# Altium footprint library pcb lib.PcbLib: 160 footprints (part 9 of 10)
Each footprint in its own frame and in the unit in brackets; x right, y up, seen from the top. Pads: shape width x height; smd on the part's side, far side on the other; paste and mask are expansions set on the pad; w line width, h text height; cw(c..) or ccw(c..) is an arc to the next point about the centre after c.
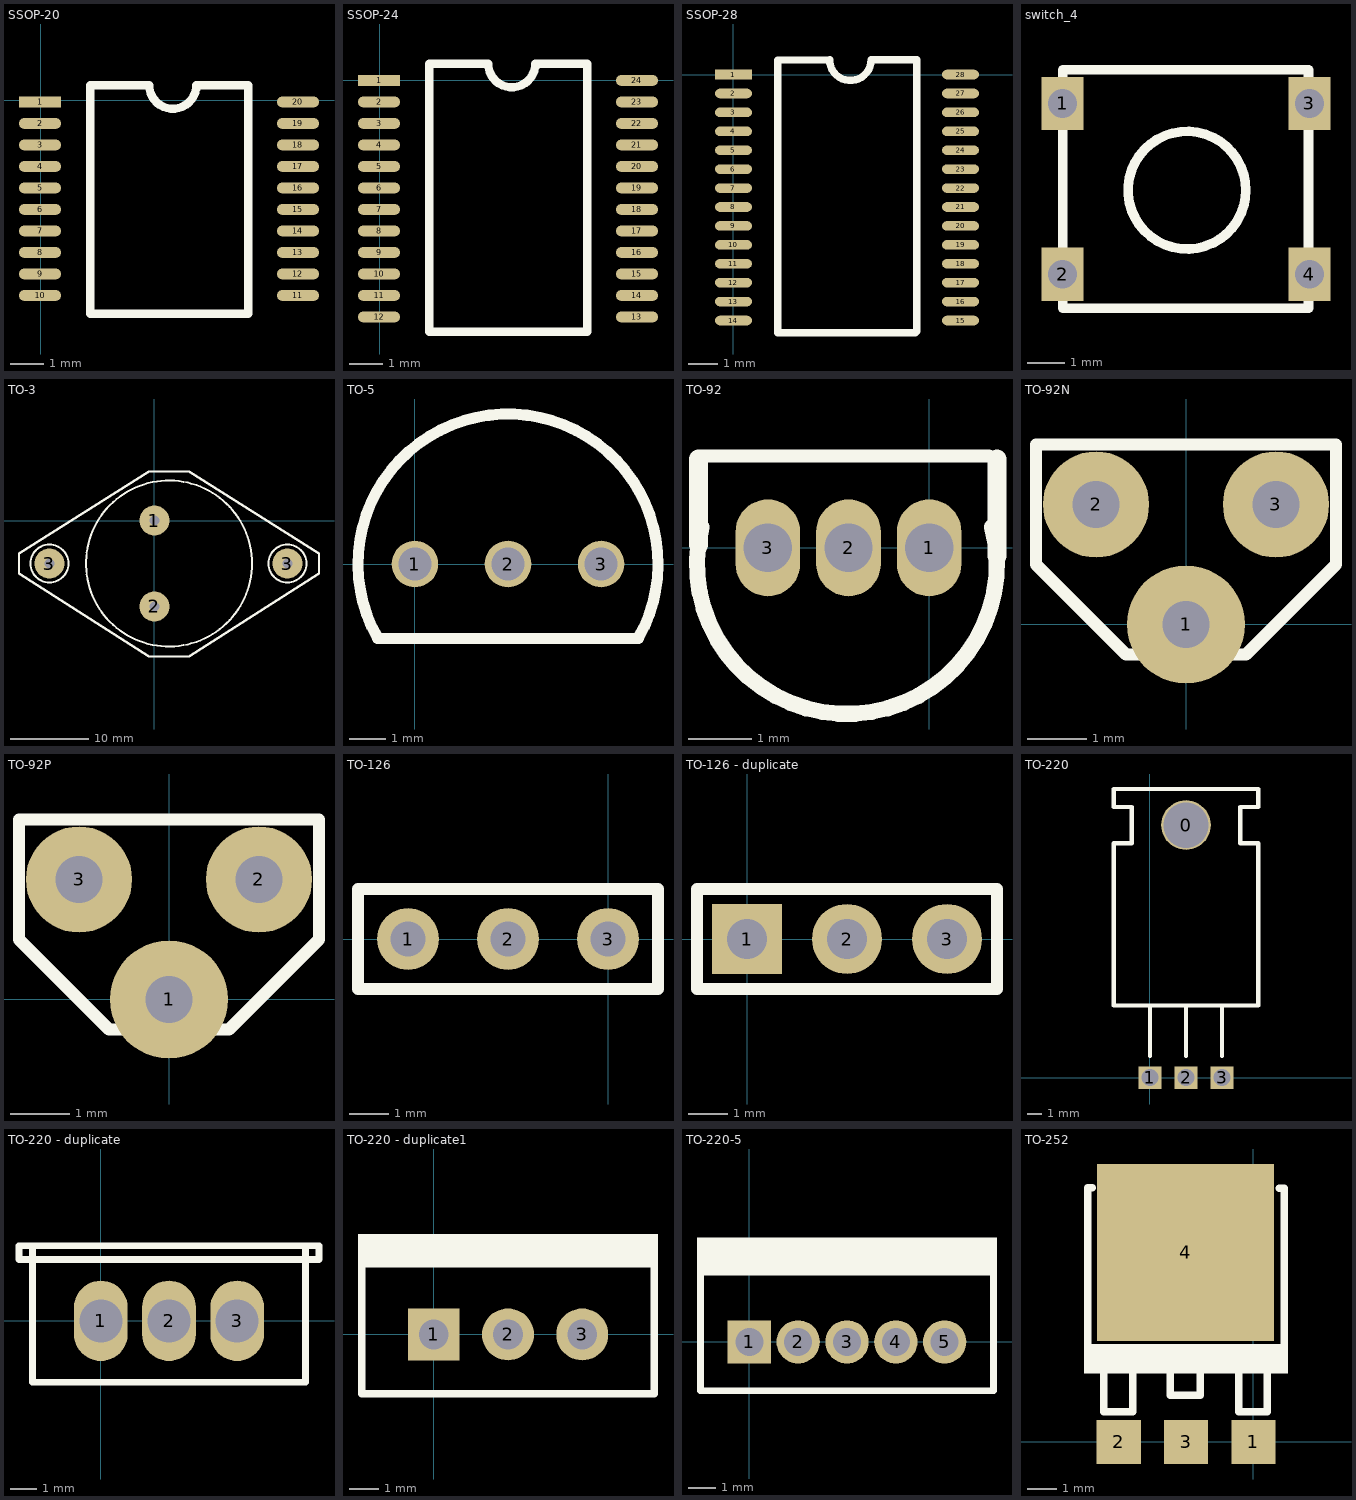
[diagram p8: the footprints below, top view; thin cyan lines are the x and y axes]

## SSOP-20 [mm]
pads (20):
  rect 1.27x0.33 smd: 1(-0.025,-0.051)
  oval 1.27x0.33 smd: 2(-0.025,-0.701) 3(-0.025,-1.351) 4(-0.025,-2.001) 5(-0.025,-2.651) 6(-0.025,-3.301) 7(-0.025,-3.951) 8(-0.025,-4.601) 9(-0.025,-5.251) 10(-0.025,-5.901) 11(7.775,-5.901) 12(7.775,-5.251) 13(7.775,-4.601) 14(7.775,-3.951) 15(7.775,-3.301) 16(7.775,-2.651) 17(7.775,-2.001) 18(7.775,-1.351) 19(7.775,-0.701) 20(7.775,-0.051)
Top Overlay:
  lines w0.254: 6.223,-6.45 1.499,-6.45 1.499,0.449 3.269,0.449 3.277,0.457 ccw(c3.99,0.457) 4.703,0.457 6.266,0.457 6.274,0.449 6.274,-6.45

## SSOP-24 [mm]
pads (24):
  rect 1.27x0.33 smd: 1(-0.025,0)
  oval 1.27x0.33 smd: 2(-0.025,-0.65) 3(-0.025,-1.3) 4(-0.025,-1.95) 5(-0.025,-2.6) 6(-0.025,-3.25) 7(-0.025,-3.9) 8(-0.025,-4.55) 9(-0.025,-5.2) 10(-0.025,-5.85) 11(-0.025,-6.5) 12(-0.025,-7.15) 13(7.775,-7.15) 14(7.775,-6.5) 15(7.775,-5.85) 16(7.775,-5.2) 17(7.775,-4.55) 18(7.775,-3.9) 19(7.775,-3.25) 20(7.775,-2.6) 21(7.775,-1.95) 22(7.775,-1.3) 23(7.775,-0.65) 24(7.775,0)
Top Overlay:
  lines w0.254: 6.223,-7.6 1.499,-7.6 1.499,0.5 3.269,0.5 3.277,0.508 ccw(c3.99,0.508) 4.703,0.508 6.266,0.508 6.274,0.5 6.274,-7.6

## SSOP-28 [mm]
pads (28):
  rect 1.27x0.33 smd: 1(0,0)
  oval 1.27x0.33 smd: 2(0,-0.65) 3(0,-1.3) 4(0,-1.95) 5(0,-2.6) 6(0,-3.25) 7(0,-3.9) 8(0,-4.55) 9(0,-5.2) 10(0,-5.85) 11(0,-6.5) 12(0,-7.15) 13(0,-7.8) 14(0,-8.45) 15(7.8,-8.45) 16(7.8,-7.8) 17(7.8,-7.15) 18(7.8,-6.5) 19(7.8,-5.85) 20(7.8,-5.2) 21(7.8,-4.55) 22(7.8,-3.9) 23(7.8,-3.25) 24(7.8,-2.6) 25(7.8,-1.95) 26(7.8,-1.3) 27(7.8,-0.65) 28(7.8,0)
Top Overlay:
  lines w0.254: 1.524,-8.865 1.524,0.5 3.294,0.5 3.302,0.508 ccw(c4.015,0.508) 4.728,0.508 6.291,0.508 6.299,0.5 6.299,-8.814 6.248,-8.865 1.524,-8.865

## switch_4 [mm]
pads (4):
  rect 1.1x1.4 hole 0.762: 1(-741.045,-772.922) 2(-741.045,-777.422) 3(-734.545,-772.922) 4(-734.545,-777.422)
Top Overlay:
  circle w0.254: c-737.769,-775.208 r1.55
  lines w0.254: -741.045,-778.32 -734.568,-778.32 -734.568,-772.033 -741.045,-772.033 -741.045,-778.32

## TO-3 [mil]
pads (4):
  round 150 hole 50: 1(0,0) 2(0,-430) 3(-525,-215) 3(665,-215)
Top Overlay:
  circle w10: c-525,-215 r95
  circle w10: c665,-215 r95
  circle w10: c73,-215 r415
  lines w12: -677,-265 -677,-165 -27,245 173,245 823,-165 823,-265 173,-680 -27,-680 -677,-265

## TO-5 [mm]
pads (3):
  round 1.27 hole 0.9: 1(0,0) 2(2.54,0) 3(5.08,0)
Top Overlay:
  lines w0.305: -1.016,-2.032 cw(c2.54,0) 6.096,-2.032 -1.016,-2.032

## TO-92 [mil]
pads (3):
  oval 40x60 hole 30: 1(0,0) 2(-50,0) 3(-100,0)
Top Overlay:
  lines w8: -143,57 37,57
  lines w10: -141,13 ccw(c-51,-10) 39,13
  lines w12: -143,2 -143,55 ; 42,-5 42,55

## TO-92N [mm]
pads (3):
  round 2 hole 0.8: 1(0,0)
  round 1.8 hole 0.8: 2(-1.524,2.032) 3(1.524,2.032)
Top Overlay:
  lines w0.203: -2.54,1.016 -2.54,3.048 2.54,3.048 2.54,1.016 1.016,-0.508 -1.016,-0.508 -2.54,1.016

## TO-92P [mm]
pads (3):
  round 2 hole 0.8: 1(0,0)
  round 1.8 hole 0.8: 2(1.524,2.032) 3(-1.524,2.032)
Top Overlay:
  lines w0.203: -2.54,1.016 -2.54,3.048 2.54,3.048 2.54,1.016 1.016,-0.508 -1.016,-0.508 -2.54,1.016

## TO-126 [mil]
pads (3):
  round 62 hole 35.43: 1(-200,0) 2(-100,0) 3(0,0)
Top Overlay:
  lines w12: -250,-50 -250,50 50,50 50,-50 -250,-50

## TO-126 - duplicate [mil]
pads (3):
  rect 70x70 hole 40: 1(0,0)
  round 70 hole 40: 2(100,0) 3(200,0)
Top Overlay:
  lines w12: -50,-50 -50,50 250,50 250,-50 -50,-50

## TO-220 [mm]
pads (4):
  round 3.5 hole 3.2: 0(2.54,17.78)
  rect 1.6x1.6 hole 1.2: 1(0,0) 2(2.54,0) 3(5.08,0)
Top Overlay:
  lines w0.305: 0,1.524 0,5.08 ; 2.54,1.524 2.54,5.08 ; 5.08,1.524 5.08,5.08 ; -2.54,5.08 -2.54,16.51 -1.27,16.51 -1.27,19.05 -2.54,19.05 -2.54,20.32 7.62,20.32 7.62,19.05 6.35,19.05 6.35,16.51 7.62,16.51 7.62,5.08 -2.54,5.08

## TO-220 - duplicate [mm]
pads (3):
  oval 2x3 hole 1.6: 1(0,0) 2(2.54,0) 3(5.08,0)
Top Overlay:
  lines w0.254: -2.54,2.794 7.62,2.794 ; -2.54,2.794 -2.54,-2.286 7.62,-2.286 7.62,2.794 ; -2.54,2.794 -3.048,2.794 -3.048,2.286 -2.54,2.286 7.62,2.286 8.128,2.286 8.128,2.794 7.62,2.794

## TO-220 - duplicate1 [mil]
pads (3):
  rect 70x70 hole 40: 1(0,0)
  round 70 hole 40: 2(100,0) 3(200,0)
Top Overlay:
  rectangle: -102,95 302,135
  lines w10: -97,-80 297,-80 297,95 -97,95 -97,-80

## TO-220-5 [mil]
pads (5):
  rect 62x62 hole 40: 1(0,0)
  round 62 hole 40: 2(70,0) 3(140,0) 4(210,0) 5(280,0)
Top Overlay:
  rectangle: -75,100 355,150
  lines w10: -70,-70 350,-70 350,100 -70,100 -70,-70

## TO-252 [mm]
pads (4):
  rect 1.5x1.5 smd: 1(0.005,-0.003) 2(-4.567,-0.003) 3(-2.281,-0.003)
  rect 6x6 smd: 4(-2.295,6.422)
Top Overlay:
  rectangle: -5.745,2.322 1.18,3.322
  lines w0.254: -5.62,3.147 -5.62,8.622 ; -5.595,8.622 -5.47,8.622 ; -5.07,2.272 -5.07,1.022 -4.095,1.022 ; -4.095,2.297 -4.095,1.022 ; -2.82,2.272 -2.82,1.572 -1.795,1.572 -1.795,2.372 ; -0.495,2.272 -0.495,1.022 0.48,1.022 ; 0.48,2.297 0.48,1.022 ; 0.88,8.597 1.03,8.597 ; 1.055,3.172 1.055,8.597 ; -4.095,1.022 -4.095,1.022 ; 0.48,1.022 0.48,1.022